# Altium footprint library EM_Power.PcbLib: 23 footprints (part 1 of 2)
Each footprint in its own frame and in the unit in brackets; x right, y up, seen from the top. Pads: shape width x height; smd on the part's side, far side on the other; paste and mask are expansions set on the pad; w line width, h text height; cw(c..) or ccw(c..) is an arc to the next point about the centre after c.
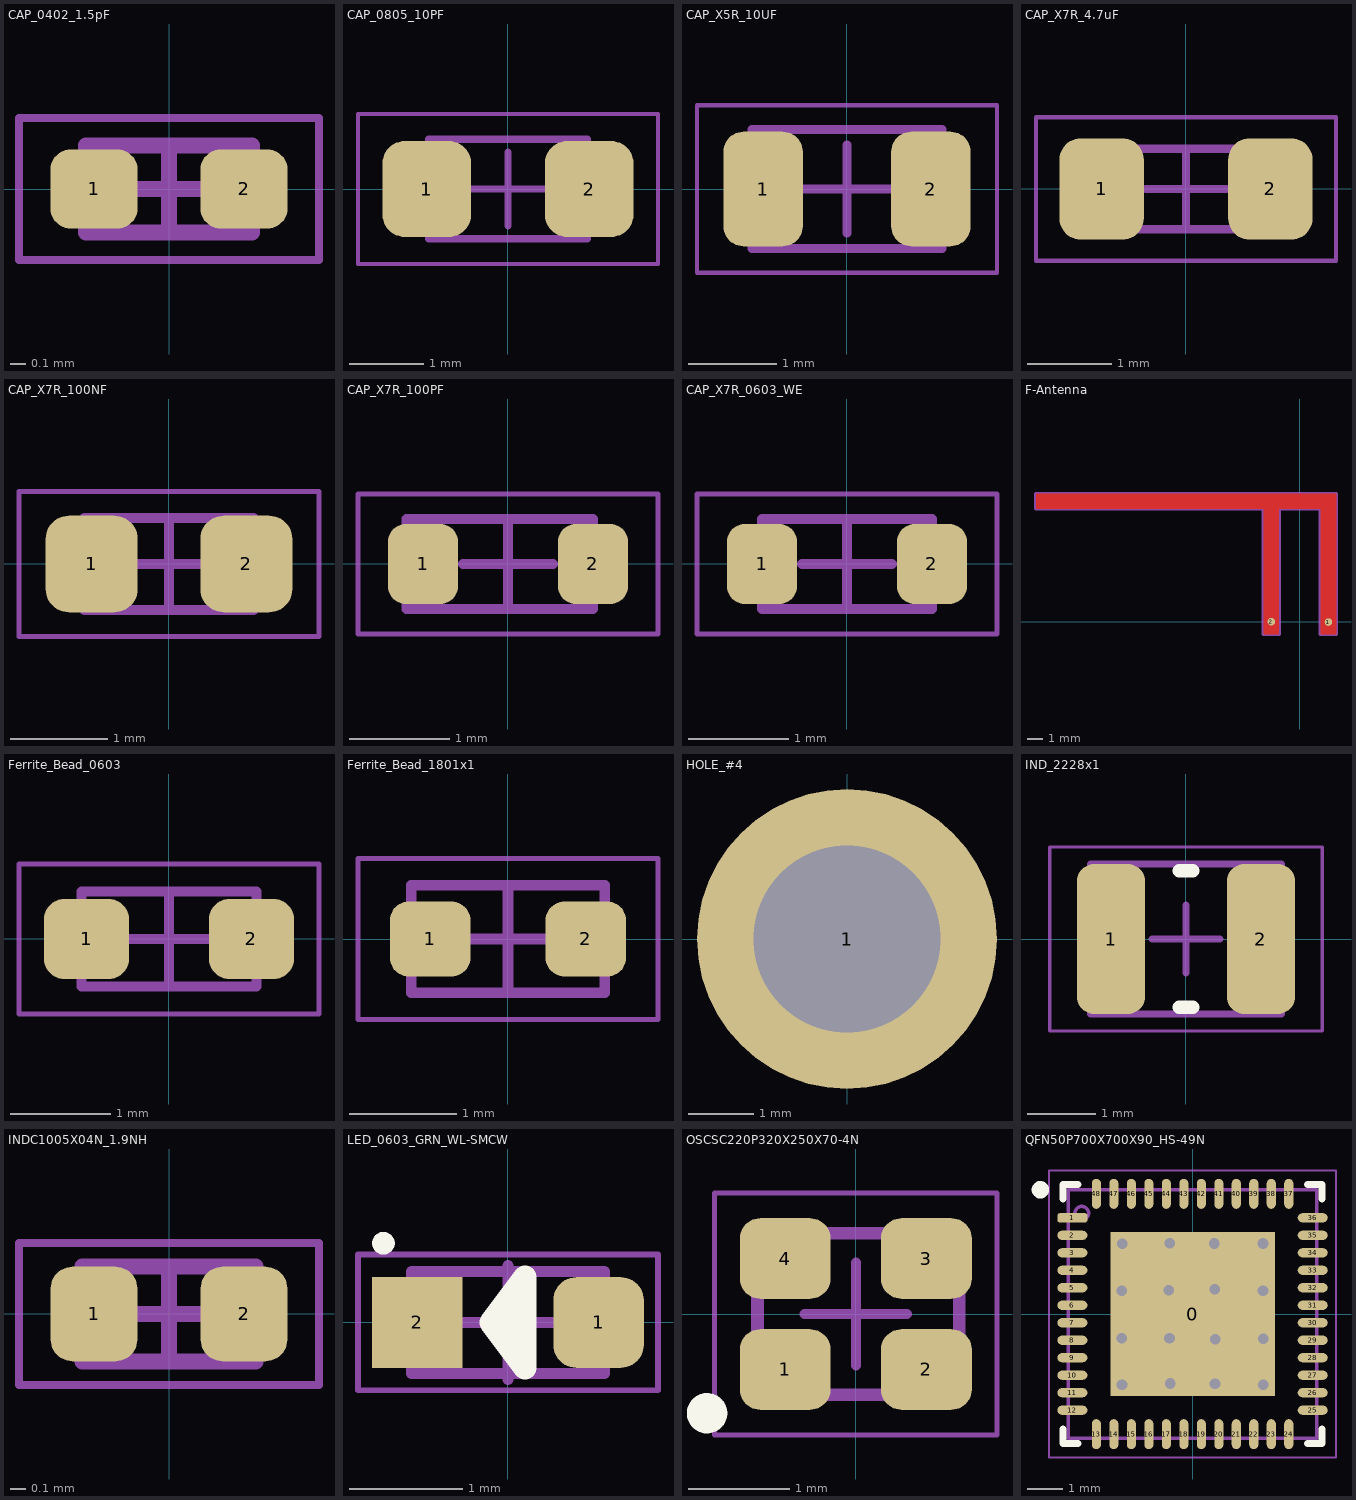
[diagram p0: the footprints below, top view; thin cyan lines are the x and y axes]

## CAP_0402_1.5pF [mm] "CAP CER 1.5PF 50V C0G/NP0 0402"
height 0.55
pads (2):
  rrect50% 0.55x0.5 smd: 1(-0.475,0) 2(0.475,0)
Mechanical 13:
  lines w0.1: -0.525,-0.275 0.525,-0.275 0.525,0.275 -0.525,0.275 -0.525,-0.275
  text ".Designator" at -0.425,-0.092 h0.25
Mechanical 15:
  lines w0.05: -0.95,-0.45 0.95,-0.45 0.95,0.45 -0.95,0.45 -0.95,-0.45
  lines w0.1: -0.275,0 0.275,0 ; 0,-0.275 0,0.275
3D body "CAP_0402_1.5pF.step": height 0.55, standoff 0, extent -0.525,-0.275 0.525,0.275

## CAP_0805_10PF [mm] "CAP CER 10PF 50V C0G/NP0 0805"
height 0.7
pads (2):
  rrect50% 1.2x1.3 smd: 1(-1.1,0) 2(1.1,0)
Mechanical 13:
  lines w0.1: -1.075,-0.675 1.075,-0.675 1.075,0.675 -1.075,0.675 -1.075,-0.675
  text ".Designator" at -0.836,-0.426 h0.85
Mechanical 15:
  lines w0.05: -2.032,-1.016 2.032,-1.016 2.032,1.016 -2.032,1.016 -2.032,-1.016
  lines w0.1: -0.5,0 0.5,0 ; 0,-0.5 0,0.5
3D body "CAP_0805_10PF.step": height 0.7, standoff 0, extent -1.075,-0.675 1.075,0.675

## CAP_X5R_10UF [mm] "CAP CER 10UF 6.3V X5R 0805"
height 1.35
pads (2):
  rrect50% 0.9x1.3 smd: 1(-0.95,0) 2(0.95,0)
Mechanical 13:
  lines w0.1: -1.075,-0.675 -1.075,0.675 1.075,0.675 1.075,-0.675 -1.075,-0.675
  text ".Designator" at -0.866,-0.489 h0.75
Mechanical 15:
  lines w0.05: -1.7,-0.95 -1.7,0.95 1.7,0.95 1.7,-0.95 -1.7,-0.95
  lines w0.1: -0.5,0 0.5,0 ; 0,-0.5 0,0.5
3D body "CAP_X5R_10UF.step": height 1.35, standoff 0, extent -1.075,-0.675 1.075,0.675

## CAP_X7R_4.7uF [mm] "CAP CER 4.7UF 6.3V X7R 0603"
height 0.95
pads (2):
  rrect50% 1x1.2 smd: 1(-1,0) 2(1,0)
Mechanical 13:
  lines w0.1: -0.875,-0.475 0.875,-0.475 0.875,0.475 -0.875,0.475 -0.875,-0.475
  text ".Designator" at -0.729,-0.258 h0.65
Mechanical 15:
  lines w0.05: -1.778,-0.85 1.778,-0.85 1.778,0.85 -1.778,0.85 -1.778,-0.85
  lines w0.1: -0.475,0 0.475,0 ; 0,-0.475 0,0.475
3D body "CAP_X7R_4.7uF.step": height 0.95, standoff 0, extent -0.875,-0.475 0.875,0.475

## CAP_X7R_100NF [mm] "CAP CER 0.1UF 16V X7R 0603"
height 0.95
pads (2):
  rrect50% 0.95x1 smd: 1(-0.8,0) 2(0.8,0)
Mechanical 13:
  lines w0.1: -0.875,-0.475 -0.875,0.475 0.875,0.475 0.875,-0.475 -0.875,-0.475
  text ".Designator" at -0.612,-0.318 h0.5
Mechanical 15:
  lines w0.05: -1.55,-0.75 -1.55,0.75 1.55,0.75 1.55,-0.75 -1.55,-0.75
  lines w0.1: -0.475,0 0.475,0 ; 0,-0.475 0,0.475
3D body "CAP_X7R_100NF.step": height 0.95, standoff 0, extent -0.875,-0.475 0.875,0.475

## CAP_X7R_100PF [mm] "CAP CER 100PF 16V X7R 0603"
height 0.87
pads (2):
  rrect50% 0.7x0.8 smd: 1(-0.85,0) 2(0.85,0)
Mechanical 13:
  lines w0.1: -1.016,-0.45 0.85,-0.45 0.85,0.45 -1.016,0.45 -1.016,-0.45
  text ".Designator" at -0.846,-0.265 h0.6
Mechanical 15:
  lines w0.05: -1.5,-0.7 1.5,-0.7 1.5,0.7 -1.5,0.7 -1.5,-0.7
  lines w0.1: -0.45,0 0.45,0 ; 0,-0.45 0,0.45
3D body "CAP_X7R_100PF.step": height 0.87, standoff 0, extent -0.85,-0.45 0.85,0.45

## CAP_X7R_0603_WE [mm] "CAP CER 10000PF 16V X7R 0603"
height 0.87
pads (2):
  rrect50% 0.7x0.8 smd: 1(-0.85,0) 2(0.85,0)
Mechanical 13:
  lines w0.1: -0.85,-0.45 -0.85,0.45 0.85,0.45 0.85,-0.45 -0.85,-0.45
  text ".Designator" at -0.612,-0.318 h0.5
Mechanical 15:
  lines w0.05: -1.5,-0.7 -1.5,0.7 1.5,0.7 1.5,-0.7 -1.5,-0.7
  lines w0.1: -0.45,0 0.45,0 ; 0,-0.45 0,0.45
3D body "CAP_10nF_X7R.step": height 0.87, standoff 0, extent -0.85,-0.45 0.85,0.45

## F-Antenna [mm]
pads (2):
  round 0.5 smd paste-2 mask-2: 1(1.892,-0.012) 2(-1.891,0.013)
Top Layer:
  region: 2.392,-0.818 2.392,8.478 -17.471,8.478 -17.471,7.488 -2.399,7.488 -2.399,-0.818 -1.383,-0.818 -1.383,7.488 1.376,7.488 1.376,-0.818
Mechanical 15:
  lines w0.254: -17.471,7.488 -2.399,7.488 -2.399,-0.818 -1.383,-0.818 -1.383,7.488 1.376,7.488 1.376,-0.818 2.392,-0.818 2.392,8.478 -17.471,8.478 -17.471,7.488

## Ferrite_Bead_0603 [mm] "FERRITE BEAD 600 OHM 0603 1LN"
height 0.95
pads (2):
  rrect50% 0.85x0.8 smd: 1(-0.825,0) 2(0.825,0)
Mechanical 13:
  lines w0.1: -0.875,-0.475 0.875,-0.475 0.875,0.475 -0.875,0.475 -0.875,-0.475
  text ".Designator" at -0.739,-0.302 h0.55
Mechanical 15:
  lines w0.05: -1.5,-0.75 1.5,-0.75 1.5,0.75 -1.5,0.75 -1.5,-0.75
  lines w0.1: -0.475,0 0.475,0 ; 0,-0.475 0,0.475
3D body "Ferrite_Bead_0603.step": height 0.95, standoff 0, extent -0.875,-0.475 0.875,0.475

## Ferrite_Bead_1801x1 [mm] "FERRITE BEAD 1 KOHM 0603 1LN"
height 1
pads (2):
  rrect50% 0.75x0.7 smd: 1(-0.725,0) 2(0.725,0)
Mechanical 13:
  lines w0.1: -0.9,-0.5 -0.9,0.5 0.9,0.5 0.9,-0.5 -0.9,-0.5
  text ".Designator" at -0.632,-0.288 h0.65
Mechanical 15:
  lines w0.05: -1.397,-0.75 -1.397,0.75 1.397,0.75 1.397,-0.75 -1.397,-0.75
  lines w0.1: -0.5,0 0.5,0 ; 0,-0.5 0,0.5
3D body "Ferrite_Bead_1801x1.step": height 1, standoff 0, extent -0.9,-0.5 0.9,0.5

## HOLE_#4 [mil]
pads (1):
  round 180 hole 112: 1(0,0)

## IND_2228x1 [mm] "Shielded Multilayer Inductor 143mOhm Max 1008 (2520 Metric)"
height 1
pads (2):
  rrect50% 1x2.2 smd: 1(-1.1,0) 2(1.1,0)
Top Overlay:
  lines w0.2: -0.1,-1 0.1,-1 ; -0.1,1 0.1,1
Mechanical 13:
  lines w0.1: -1.4,-1.1 -1.4,1.1 1.4,1.1 1.4,-1.1 -1.4,-1.1
  text ".Designator" at -1.1,-0.887 h1.4
Mechanical 15:
  lines w0.05: -2,-1.35 -2,1.35 2,1.35 2,-1.35 -2,-1.35
  lines w0.1: -0.5,0 0.5,0 ; 0,-0.5 0,0.5
3D body "IND_2228x1.step": height 1, standoff 0, extent -1.4,-1.1 1.4,1.1

## INDC1005X04N_1.9NH [mm] "Chip Inductor, 2-Leads, Body 1.00x0.50mm, IPC Medium Density"
height 0.45
pads (2):
  rrect50% 0.55x0.6 smd: 1(-0.475,0) 2(0.475,0)
Mechanical 13:
  lines w0.1: -0.55,-0.3 -0.55,0.3 0.55,0.3 0.55,-0.3 -0.55,-0.3
  text ".Designator" at -0.421,-0.188 h0.25
Mechanical 15:
  lines w0.05: -0.95,-0.45 -0.95,0.45 0.95,0.45 0.95,-0.45 -0.95,-0.45
  lines w0.1: -0.3,0 0.3,0 ; 0,-0.3 0,0.3
3D body "INDC1005X04N_1.9NH.step": height 0.45, standoff 0, extent -0.55,-0.3 0.55,0.3

## LED_0603_GRN_WL-SMCW [mm] "SODFL, 2-Leads, Body 0.80x1.80mm, IPC Medium Density"
height 0.8
pads (2):
  rrect50% 0.8x0.8 smd: 1(0.8,0)
  rect 0.8x0.8 smd: 2(-0.8,0)
Top Overlay:
  circle w0.1: c-1.1,0.7 r0.05
  lines w0.2: -0.15,0 0.05,0
  lines w0.205: -0.15,0 0.15,-0.4 0.15,0.4 -0.15,0
Mechanical 13:
  lines w0.1: -0.85,-0.45 -0.85,0.45 0.85,0.45 0.85,-0.45 -0.85,-0.45
  text ".Designator" at -0.723,-0.254 h0.5
Mechanical 15:
  lines w0.05: -1.325,-0.6 -1.325,0.6 1.325,0.6 1.325,-0.6 -1.325,-0.6
  lines w0.1: -0.5,0 0.5,0 ; 0,-0.5 0,0.5
3D body "LED_0603_WURTH_WL-SMCW_lens.step": height 0.71, standoff 0.31, extent -0.55,-0.4 0.55,0.4
3D body "LED_0603_WURTH_WL-SMCW_base.step": height 0.65, standoff 0.01, extent -0.8,-0.4 0.8,0.4

## OSCSC220P320X250X70-4N [mm]
pads (4):
  rrect50% 0.9x0.8 smd mask+0.089: 1(-0.7,-0.55) 2(0.7,-0.55) 3(0.7,0.55) 4(-0.7,0.55)
Top Overlay:
  circle w0.2: c-1.475,-0.984 r0.1
Mechanical 13:
  lines w0.127: -0.975,-0.8 -0.975,0.8 1.025,0.8 1.025,-0.8 -0.975,-0.8
  text ".Designator" at -0.9,-0.746 h1.35
Mechanical 15:
  lines w0.05: -1.4,-1.2 -1.4,1.2 1.4,1.2 1.4,-1.2 -1.4,-1.2
  lines w0.1: -0.508,0 0.508,0 ; 0,-0.508 0,0.508
3D body "User Library-JXS21.STEP": height 0.45, standoff 0, extent -0.98,-0.82 1.02,0.78

## QFN50P700X700X90_HS-49N [mm] "QFN, 48-Leads, Body 7.00x7.00mm, Pitch 0.50mm, Thermal Pad 4.70x4.70mm, IPC Medium Density"
height 0.9
pads (49):
  rect 4.7x4.7 smd paste-2.54: 0(0,0)
  rrect50% 0.86x0.26 smd mask+0.045: 1(-3.435,2.75)
  oval 0.86x0.26 smd mask+0.045: 2(-3.435,2.25) 3(-3.435,1.75) 4(-3.435,1.25) 5(-3.435,0.75) 6(-3.435,0.25) 7(-3.435,-0.25) 8(-3.435,-0.75) 9(-3.435,-1.25) 10(-3.435,-1.75) 11(-3.435,-2.25) 12(-3.435,-2.75) 25(3.435,-2.75) 26(3.435,-2.25) 27(3.435,-1.75) 28(3.435,-1.25) 29(3.435,-0.75) 30(3.435,-0.25) 31(3.435,0.25) 32(3.435,0.75) 33(3.435,1.25) 34(3.435,1.75) 35(3.435,2.25) 36(3.435,2.75)
  oval 0.26x0.86 smd mask+0.045: 13(-2.75,-3.435) 14(-2.25,-3.435) 15(-1.75,-3.435) 16(-1.25,-3.435) 17(-0.75,-3.435) 18(-0.25,-3.435) 19(0.25,-3.435) 20(0.75,-3.435) 21(1.25,-3.435) 22(1.75,-3.435) 23(2.25,-3.435) 24(2.75,-3.435) 37(2.75,3.435) 38(2.25,3.435) 39(1.75,3.435) 40(1.25,3.435) 41(0.75,3.435) 42(0.25,3.435) 43(-0.25,3.435) 44(-0.75,3.435) 45(-1.25,3.435) 46(-1.75,3.435) 47(-2.25,3.435) 48(-2.75,3.435)
via 0.642,-1.996 diameter 0.559 hole 0.305
via -0.66,-0.69 diameter 0.559 hole 0.305
via 0.653,-0.719 diameter 0.559 hole 0.305
via 0.63,0.707 diameter 0.559 hole 0.305
via -2.021,-0.694 diameter 0.559 hole 0.305
via -2.018,-2.018 diameter 0.559 hole 0.305
via 2.017,-2.018 diameter 0.559 hole 0.305
via 2.016,-0.705 diameter 0.559 hole 0.305
via 2.015,0.666 diameter 0.559 hole 0.305
via 2.014,2.014 diameter 0.559 hole 0.305
via -2.007,2.011 diameter 0.559 hole 0.305
via -2.025,0.667 diameter 0.559 hole 0.305
via -0.637,-1.986 diameter 0.559 hole 0.305
via -0.682,0.68 diameter 0.559 hole 0.305
via 0.62,2.017 diameter 0.559 hole 0.305
via -0.652,2.021 diameter 0.559 hole 0.305
Top Overlay:
  circle w0.25: c-4.35,3.55 r0.125
  lines w0.2: -3.7,-3.28 -3.7,-3.7 -3.28,-3.7 ; -3.7,3.28 -3.7,3.7 -3.28,3.7 ; 3.28,-3.7 3.7,-3.7 3.7,-3.28 ; 3.28,3.7 3.7,3.7 3.7,3.28
Top Paste:
  rectangle: -0.559,0.799 0.483,1.896
  rectangle: 0.749,0.804 1.897,1.888
  rectangle: 0.806,-1.991 1.865,-0.788
  rectangle: -0.484,-1.988 0.486,-0.762
  rectangle: -0.571,-0.568 0.551,0.56
  rectangle: -1.933,-0.557 -0.771,0.534
  rectangle: -1.89,0.789 -0.798,1.9
  rectangle: -1.872,-1.973 -0.804,-0.762
  rectangle: 0.753,-0.58 1.87,0.584
Mechanical 13:
  lines w0.1: -2.974,2.905 ccw(c-3.167,2.88) -2.972,2.869 ; -3.55,-3.55 3.55,-3.55 3.55,3.55 -3.55,3.55 -3.55,-3.55
  text ".Designator" at -3.175,-3.175 h1.52
Mechanical 15:
  lines w0.05: -4.1,-4.1 4.1,-4.1 4.1,4.1 -4.1,4.1 -4.1,-4.1
  lines w0.1: -0.5,0 0.5,0 ; 0,-0.5 0,0.5
3D body: height 0.9, standoff 0.05, extent -3.55,-3.55 3.55,3.55